# Altium schematic symbol library ANALOG_IN.SchLib: 1 symbol
Pins are listed as number, name and electrical type; pins without a type are passive.

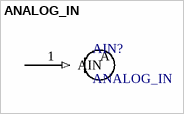
[diagram p0: symbol ANALOG_IN]

## ANALOG_IN
designator AIN?
Analog input symbol
pins: 1 AIN (in)
text: A